# EAGLE library part ATMEGA3250 (library atmel)
8-bit AVR Microcontroller 32 kbytes FLASH 2 kbytes SRAM 1k bytes EEPROM USART, SPI 8-channel 10 bit ADC
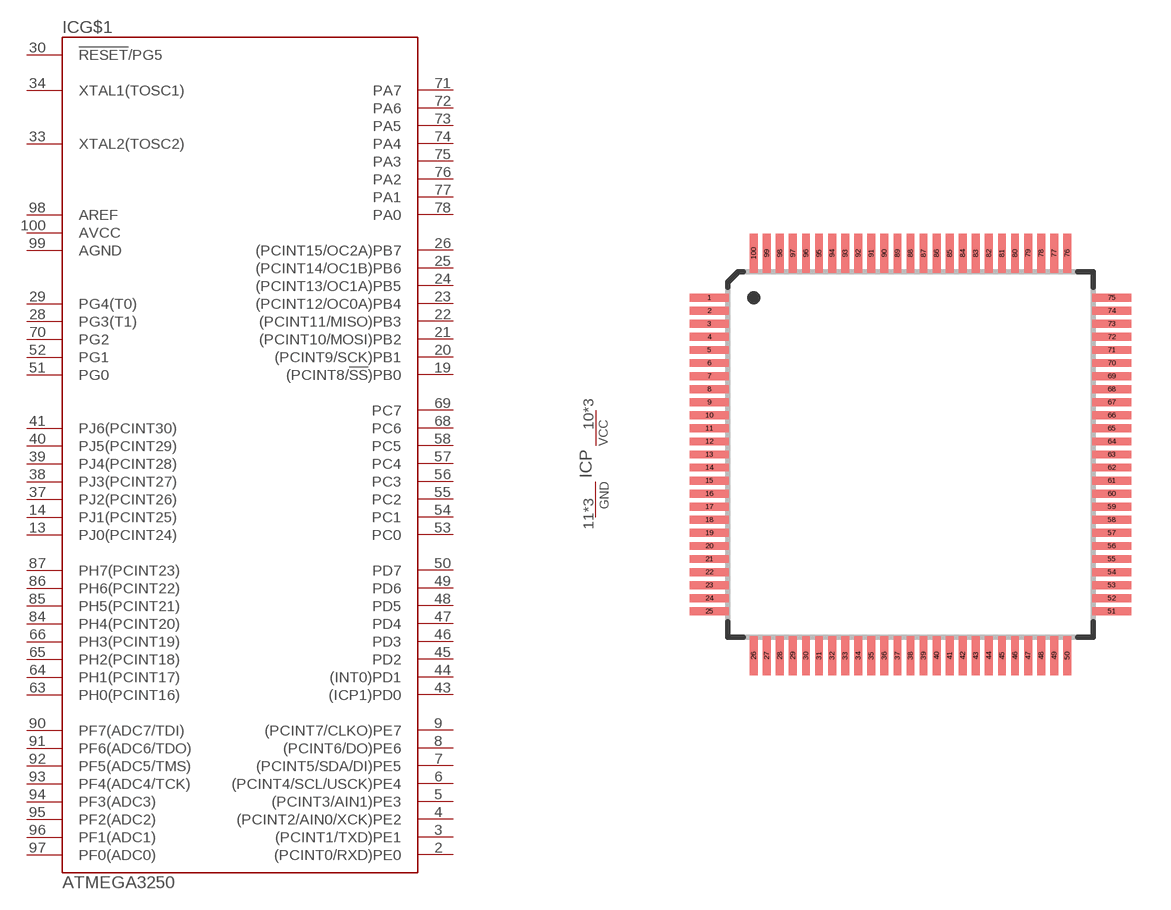
[diagram p61: symbol with the pads of QFP100_14X14_0.50; footprint QFP100_14X14_0.50]

Designator prefix IC; gates G$1=MEGA6450 P=PWR

## ATMEGA3250-16AU, ATMEGA3250A-AU, ATMEGA3250P-20AU, ATMEGA3250PA-AU, ATMEGA3250PV-10AU, ATMEGA3250V-8AU  [QFP100_14X14_0.50]
2  G$1:(PCINT0/RXD)PE0
3  G$1:(PCINT1/TXD)PE1
4  G$1:(PCINT2/AIN0/XCK)PE2
5  G$1:(PCINT3/AIN1)PE3
6  G$1:(PCINT4/SCL/USCK)PE4
7  G$1:(PCINT5/SDA/DI)PE5
8  G$1:(PCINT6/DO)PE6
9  G$1:(PCINT7/CLKO)PE7
10  P:VCC  pwr
11  P:GND  pwr
13  G$1:PJ0(PCINT24)
14  G$1:PJ1(PCINT25)
19  G$1:(PCINT8/!SS!)PB0
20  G$1:(PCINT9/SCK)PB1
21  G$1:(PCINT10/MOSI)PB2
22  G$1:(PCINT11/MISO)PB3
23  G$1:(PCINT12/OC0A)PB4
24  G$1:(PCINT13/OC1A)PB5
25  G$1:(PCINT14/OC1B)PB6
26  G$1:(PCINT15/OC2A)PB7
28  G$1:PG3(T1)
29  G$1:PG4(T0)
30  G$1:!RESET!/PG5  in
31  P:VCC  pwr
32  P:GND  pwr
33  G$1:XTAL2(TOSC2)
34  G$1:XTAL1(TOSC1)
37  G$1:PJ2(PCINT26)
38  G$1:PJ3(PCINT27)
39  G$1:PJ4(PCINT28)
40  G$1:PJ5(PCINT29)
41  G$1:PJ6(PCINT30)
43  G$1:(ICP1)PD0
44  G$1:(INT0)PD1
45  G$1:PD2
46  G$1:PD3
47  G$1:PD4
48  G$1:PD5
49  G$1:PD6
50  G$1:PD7
51  G$1:PG0
52  G$1:PG1
53  G$1:PC0
54  G$1:PC1
55  G$1:PC2
56  G$1:PC3
57  G$1:PC4
58  G$1:PC5
63  G$1:PH0(PCINT16)
64  G$1:PH1(PCINT17)
65  G$1:PH2(PCINT18)
66  G$1:PH3(PCINT19)
68  G$1:PC6
69  G$1:PC7
70  G$1:PG2
71  G$1:PA7
72  G$1:PA6
73  G$1:PA5
74  G$1:PA4
75  G$1:PA3
76  G$1:PA2
77  G$1:PA1
78  G$1:PA0
80  P:VCC  pwr
81  P:GND  pwr
84  G$1:PH4(PCINT20)
85  G$1:PH5(PCINT21)
86  G$1:PH6(PCINT22)
87  G$1:PH7(PCINT23)
90  G$1:PF7(ADC7/TDI)
91  G$1:PF6(ADC6/TDO)
92  G$1:PF5(ADC5/TMS)
93  G$1:PF4(ADC4/TCK)
94  G$1:PF3(ADC3)
95  G$1:PF2(ADC2)
96  G$1:PF1(ADC1)
97  G$1:PF0(ADC0)
98  G$1:AREF  pas
99  G$1:AGND  pwr
100  G$1:AVCC  pwr

## ATMEGA3250A-AN, ATMEGA3250PA-AN  [QFP100_14X14_0.50]
Pads as for QFP100_14X14_0.50

## Footprint QFP100_14X14_0.50 (pad centres in mm)
Thin Plasic Quad Flat Package, 14mm x 14mm body, 0.50mm lead pitch JEDEC: MS-026 AED ATMEL Code: 100A
smd 1.5 x 0.3: 1 -7.7,6; 2 -7.7,5.5; 3 -7.7,5; 4 -7.7,4.5; 5 -7.7,4; 6 -7.7,3.5; 7 -7.7,3; 8 -7.7,2.5; 9 -7.7,2; 10 -7.7,1.5; 11 -7.7,1; 12 -7.7,0.5; 13 -7.7,0; 14 -7.7,-0.5; 15 -7.7,-1; 16 -7.7,-1.5; 17 -7.7,-2; 18 -7.7,-2.5; 19 -7.7,-3; 20 -7.7,-3.5; 21 -7.7,-4; 22 -7.7,-4.5; 23 -7.7,-5; 24 -7.7,-5.5; 25 -7.7,-6; 51 7.7,-6; 52 7.7,-5.5; 53 7.7,-5; 54 7.7,-4.5; 55 7.7,-4; 56 7.7,-3.5; 57 7.7,-3; 58 7.7,-2.5; 59 7.7,-2; 60 7.7,-1.5; 61 7.7,-1; 62 7.7,-0.5; 63 7.7,0; 64 7.7,0.5; 65 7.7,1; 66 7.7,1.5; 67 7.7,2; 68 7.7,2.5; 69 7.7,3; 70 7.7,3.5; 71 7.7,4; 72 7.7,4.5; 73 7.7,5; 74 7.7,5.5; 75 7.7,6
smd 0.3 x 1.5: 26 -6,-7.7; 27 -5.5,-7.7; 28 -5,-7.7; 29 -4.5,-7.7; 30 -4,-7.7; 31 -3.5,-7.7; 32 -3,-7.7; 33 -2.5,-7.7; 34 -2,-7.7; 35 -1.5,-7.7; 36 -1,-7.7; 37 -0.5,-7.7; 38 0,-7.7; 39 0.5,-7.7; 40 1,-7.7; 41 1.5,-7.7; 42 2,-7.7; 43 2.5,-7.7; 44 3,-7.7; 45 3.5,-7.7; 46 4,-7.7; 47 4.5,-7.7; 48 5,-7.7; 49 5.5,-7.7; 50 6,-7.7; 76 6,7.7; 77 5.5,7.7; 78 5,7.7; 79 4.5,7.7; 80 4,7.7; 81 3.5,7.7; 82 3,7.7; 83 2.5,7.7; 84 2,7.7; 85 1.5,7.7; 86 1,7.7; 87 0.5,7.7; 88 0,7.7; 89 -0.5,7.7; 90 -1,7.7; 91 -1.5,7.7; 92 -2,7.7; 93 -2.5,7.7; 94 -3,7.7; 95 -3.5,7.7; 96 -4,7.7; 97 -4.5,7.7; 98 -5,7.7; 99 -5.5,7.7; 100 -6,7.7